# Altium schematic symbol library ESP32_nodeMCU.SchLib: 1 symbol
Pins are listed as number, name and electrical type; pins without a type are passive.

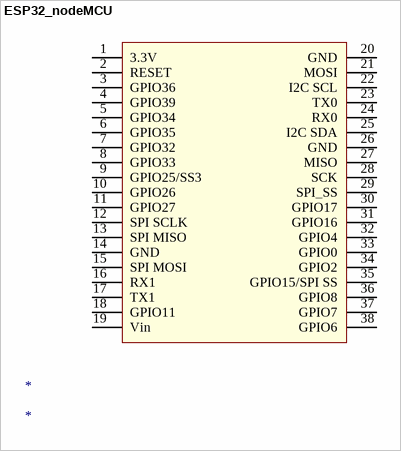
[diagram p0: symbol ESP32_nodeMCU]

## ESP32_nodeMCU
designator *
footprint esp32_nodemcu_v2
pins: 1 3.3V, 2 RESET, 3 GPIO36, 4 GPIO39, 5 GPIO34, 6 GPIO35, 7 GPIO32, 8 GPIO33, 9 GPIO25/SS3, 10 GPIO26, 11 GPIO27, 12 SPI SCLK, 13 SPI MISO, 14 GND, 15 SPI MOSI, 16 RX1, 17 TX1, 18 GPIO11, 19 Vin, 20 GND, 21 MOSI, 22 I2C SCL, 23 TX0, 24 RX0, 25 I2C SDA, 26 GND, 27 MISO, 28 SCK, 29 SPI_SS, 30 GPIO17, 31 GPIO16, 32 GPIO4, 33 GPIO0, 34 GPIO2, 35 GPIO15/SPI SS, 36 GPIO8, 37 GPIO7, 38 GPIO6